# EAGLE library part BMX055 (library BMX055)
Small versatile 9-axis sensor module Source: Datasheet <http://www.mouser.com/ds/2/621/BST-BMX055-DS000-02-586421.pdf>
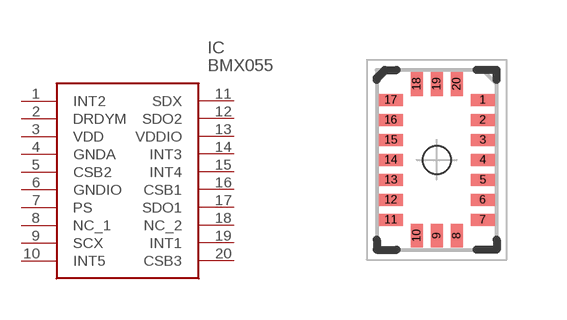
[diagram p0: symbol with the pads of LGA_PACKAGE_20_PINS; footprint LGA_PACKAGE_20_PINS]

Designator prefix IC

## BMX055 (Description: Small versatile 9-axis sensor module; Height: mm; Manufacturer_Name: Bosch Sensortec; Manufacturer_Part_Number: BMX055; Mouser_Part_Number: 262-BMX055; Mouser_Price-Stock: https://www.mouser.com/Search/Refine.aspx?Keyword=262-BMX055)  [LGA_PACKAGE_20_PINS]
1  INT2  in
2  DRDYM
3  VDD  pwr
4  GNDA  pwr
5  CSB2  in
6  GNDIO  pwr
7  PS
8  NC_1
9  SCX
10  INT5  in
11  SDX
12  SDO2
13  VDDIO  pwr
14  INT3  in
15  INT4  in
16  CSB1  in
17  SDO1
18  NC_2
19  INT1  in
20  CSB3  in

## Footprint LGA_PACKAGE_20_PINS (pad centres in mm)
LGA package 20 pins
smd 0.6 x 0.3: 1 1.15,1.5; 2 1.15,1; 3 1.15,0.5; 4 1.15,0; 5 1.15,-0.5; 6 1.15,-1; 7 1.15,-1.5; 11 -1.15,-1.5; 12 -1.15,-1; 13 -1.15,-0.5; 14 -1.15,0; 15 -1.15,0.5; 16 -1.15,1; 17 -1.15,1.5
smd 0.3 x 0.6: 8 0.5,-1.9; 9 0,-1.9; 10 -0.5,-1.9; 18 -0.5,1.9; 19 0,1.9; 20 0.5,1.9